# EAGLE library part ADL5542 (library Lasser)
Analog Devices ADL5542 RF/IF 20dB Gain Block 50MHz - 6GHz NF: 3dB OP1dB: 20.6 dBm 5V supply
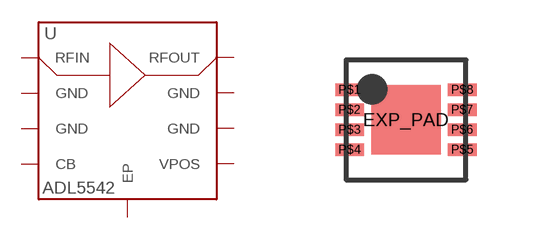
[diagram p15: symbol with the pads of LFCSP_VD; footprint LFCSP_VD]

Designator prefix -

## ADL5542  [LFCSP_VD]
EXP_PAD  EP  pwr
P$1  RFIN  in
P$2  GND  pwr
P$3  GND  pwr
P$4  CB  pwr
P$5  VPOS  pwr
P$6  GND  pwr
P$7  GND  pwr
P$8  RFOUT  out

## Footprint LFCSP_VD (pad centres in mm)
LFCSP_VC (CP - 8 - 2) 3 x 3 mm Footprint nach Analog Devices
smd 1.74 x 1.74: EXP_PAD 0,0
smd 0.72 x 0.32: P$1 -1.41,0.75; P$2 -1.41,0.25; P$3 -1.41,-0.25; P$4 -1.41,-0.75; P$5 1.41,-0.75; P$6 1.41,-0.25; P$7 1.41,0.25; P$8 1.41,0.75